# Altium schematic symbol library NG_Digital.SchLib: 5 symbols
Pins are listed as number, name and electrical type; pins without a type are passive.

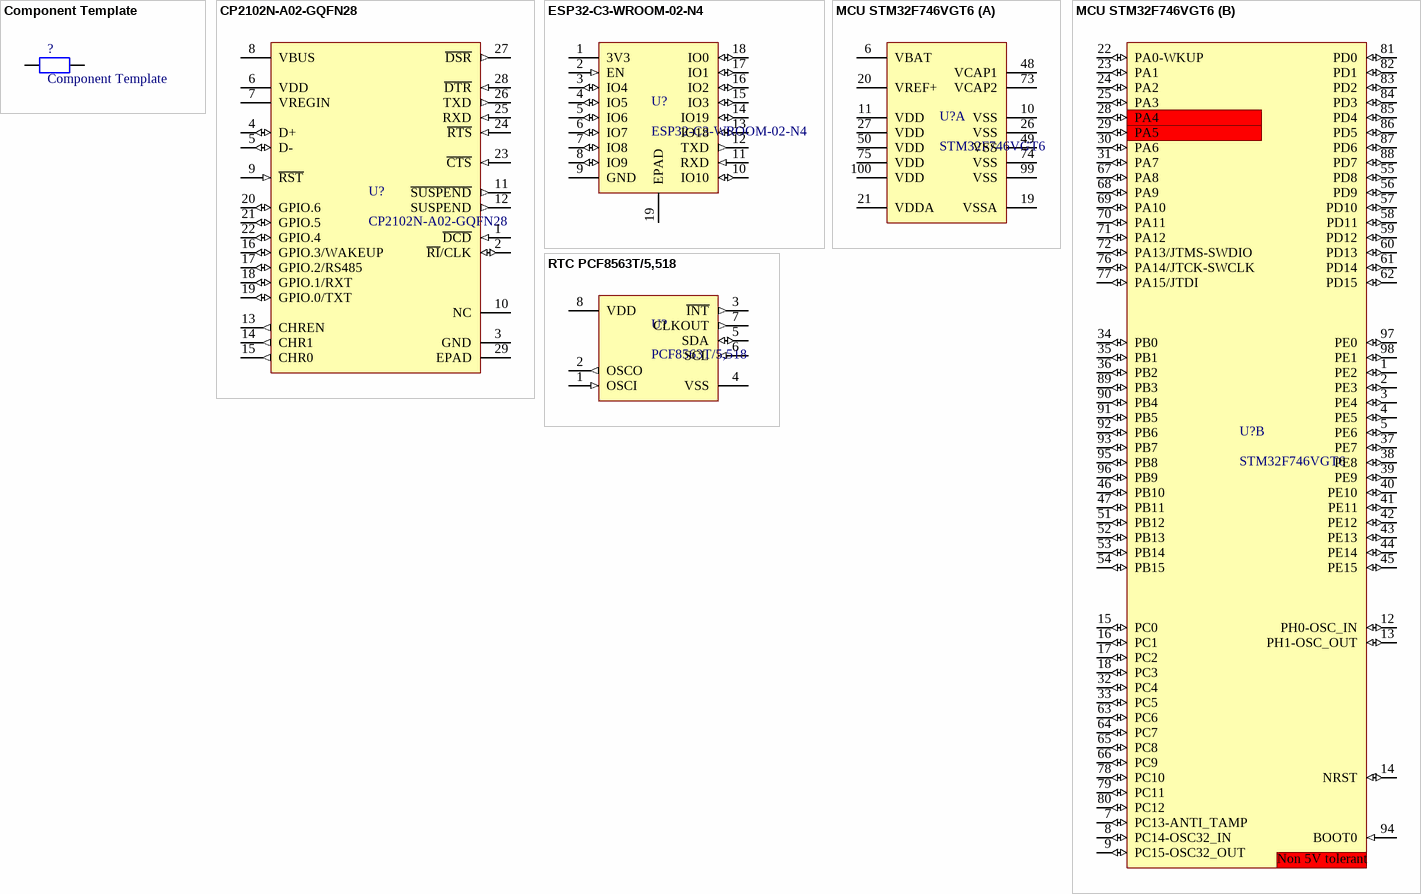
[diagram p0: symbols Component Template to RTC PCF8563T/5,518]

## Component Template
designator ?
Generic Description; Checked: No; Footprint: ?; MFR: ?; Supplier: Mouser; SPN: ?; MFRN: ?; Link: *
pins: 1, 2

## CP2102N-A02-GQFN28
designator U?
USB to UART bridge IC; MFR: Silicon Labs; SPN: 634-CP2102NA02GQFN28; Checked: No; Footprint: QFN-28; Supplier: Mouser; MFRN: CP2102N-A02-GQFN28; Link: https://hr.mouser.com/ProductDetail/Silicon-Labs/CP2102N-A02-GQFN28?qs=u16ybLDytRaSBkSkyjYFiA%3D%3D
footprint QFN50P500X500X75-28EP (28 pin flat no-leads package with exposed pad)
pins: 1 ~{DCD} (in), 2 ~{RI}/CLK (io), 3 GND (power), 4 D+ (io), 5 D- (io), 6 VDD (power), 7 VREGIN (power), 8 VBUS (power), 9 ~{RST} (in), 10 NC, 11 ~{SUSPEND} (out), 12 SUSPEND (out), 13 CHREN (out), 14 CHR1 (out), 15 CHR0 (out), 16 GPIO.3/WAKEUP (io), 17 GPIO.2/RS485 (io), 18 GPIO.1/RXT (io), 19 GPIO.0/TXT (io), 20 GPIO.6 (io), 21 GPIO.5 (io), 22 GPIO.4 (io), 23 ~{CTS} (in), 24 ~{RTS} (in), 25 RXD (in), 26 TXD (out), 27 ~{DSR} (out), 28 ~{DTR} (in), 29 EPAD (power)

## ESP32-C3-WROOM-02-N4
designator U?
RF transceiver module, Bluetooth, WiFi; MFR: Espressif Systems; SPN: 356-ESP32C3WROOM02N4; Checked: Yes; Footprint: ESP32-C3-WROOM-02-N4; Supplier: Mouser; MFRN: ESP32-C3-WROOM-02-N4; Link: https://hr.mouser.com/ProductDetail/Espressif-Systems/ESP32-C3-WROOM-02-N4?qs=sGAEpiMZZMu3sxpa5v1qrhrB%252BBlYHY1O2YkhFjq1w70%3D
footprint ESP32-C3-WROOM-02-N4 (Footprint for ESP32-C3-WROOM-02-N4 modem)
pins: 1 3V3 (power), 2 EN (in), 3 IO4 (io), 4 IO5 (io), 5 IO6 (io), 6 IO7 (io), 7 IO8 (io), 8 IO9 (io), 9 GND (power), 10 IO10 (io), 11 RXD (in), 12 TXD (out), 13 IO18 (io), 14 IO19 (io), 15 IO3 (io), 16 IO2 (io), 17 IO1 (io), 18 IO0 (io), 19 EPAD (power)

## MCU STM32F746VGT6
designator U?, comment STM32F746VGT6
MCU Arm Cortex-M7, 1MB Flash, 216MHz; MFR: STMicroelectronics; SPN: 511-STM32F746VGT6; Checked: Yes; Footprint: LQFP100; Supplier: Mouser; MFRN: STM32F746VGT6; Link: https://hr.mouser.com/ProductDetail/STMicroelectronics/STM32F746VGT6?qs=E2FFEhwHWtefRi8Hsti7qQ%3D%3D
footprint QFP50P1600X1600X160-100 (Low-profile quad flat package, 100 pins)
part A pins: 6 VBAT (power), 10 VSS (power), 11 VDD (power), 19 VSSA (power), 20 VREF+ (power), 21 VDDA (power), 26 VSS (power), 27 VDD (power), 48 VCAP1 (power), 49 VSS (power), 50 VDD (power), 73 VCAP2 (power), 74 VSS (power), 75 VDD (power), 99 VSS (power), 100 VDD (power)
part B pins: 1 PE2 (io), 2 PE3 (io), 3 PE4 (io), 4 PE5 (io), 5 PE6 (io), 7 PC13-ANTI_TAMP (io), 8 PC14-OSC32_IN (io), 9 PC15-OSC32_OUT (io), 12 PH0-OSC_IN (io), 13 PH1-OSC_OUT (io), 14 NRST (io), 15 PC0 (io), 16 PC1 (io), 17 PC2 (io), 18 PC3 (io), 22 PA0-WKUP (io), 23 PA1 (io), 24 PA2 (io), 25 PA3 (io), 28 PA4 (io), 29 PA5 (io), 30 PA6 (io), 31 PA7 (io), 32 PC4 (io), 33 PC5 (io), 34 PB0 (io), 35 PB1 (io), 36 PB2 (io), 37 PE7 (io), 38 PE8 (io), 39 PE9 (io), 40 PE10 (io), 41 PE11 (io), 42 PE12 (io), 43 PE13 (io), 44 PE14 (io), 45 PE15 (io), 46 PB10 (io), 47 PB11 (io), 51 PB12 (io), 52 PB13 (io), 53 PB14 (io), 54 PB15 (io), 55 PD8 (io), 56 PD9 (io), 57 PD10 (io), 58 PD11 (io), 59 PD12 (io), 60 PD13 (io), 61 PD14 (io), 62 PD15 (io), 63 PC6 (io), 64 PC7 (io), 65 PC8 (io), 66 PC9 (io), 67 PA8 (io), 68 PA9 (io), 69 PA10 (io), 70 PA11 (io), 71 PA12 (io), 72 PA13/JTMS-SWDIO (io), 76 PA14/JTCK-SWCLK (io), 77 PA15/JTDI (io), 78 PC10 (io), 79 PC11 (io), 80 PC12 (io), 81 PD0 (io), 82 PD1 (io), 83 PD2 (io), 84 PD3 (io), 85 PD4 (io), 86 PD5 (io), 87 PD6 (io), 88 PD7 (io), 89 PB3 (io), 90 PB4 (io), 91 PB5 (io), 92 PB6 (io), 93 PB7 (io), 94 BOOT0 (in), 95 PB8 (io), 96 PB9 (io), 97 PE0 (io), 98 PE1 (io)
part B text: Non 5V tolerant

## RTC PCF8563T/5,518
designator U?, comment PCF8563T/5,518
IC RTC CLOCK/CALENDAR I2C 8SO; MFR: NXP USA Inc.; SPN: 771-PCF8563T/5518; Checked: Yes; Footprint: SOIC-8; Supplier: Mouser; MFRN: PCF8563T/5,518; Link: https://hr.mouser.com/ProductDetail/NXP-Semiconductors/PCF8563T-5518?qs=beN0Cyoe8YmsvsbXpQCrnw%3D%3D
footprint SOIC127P610X175-8 (Generic description)
pins: 1 OSCI (in), 2 OSCO (out), 3 ~{INT} (out), 4 VSS (power), 5 SDA (io), 6 SCL (in), 7 CLKOUT (out), 8 VDD (power)